# Altium footprint library THT_Matrix_5x6.PcbLib: 1 footprints
Each footprint in its own frame and in the unit in brackets; x right, y up, seen from the top. Pads: shape width x height; smd on the part's side, far side on the other; paste and mask are expansions set on the pad; w line width, h text height; cw(c..) or ccw(c..) is an arc to the next point about the centre after c.
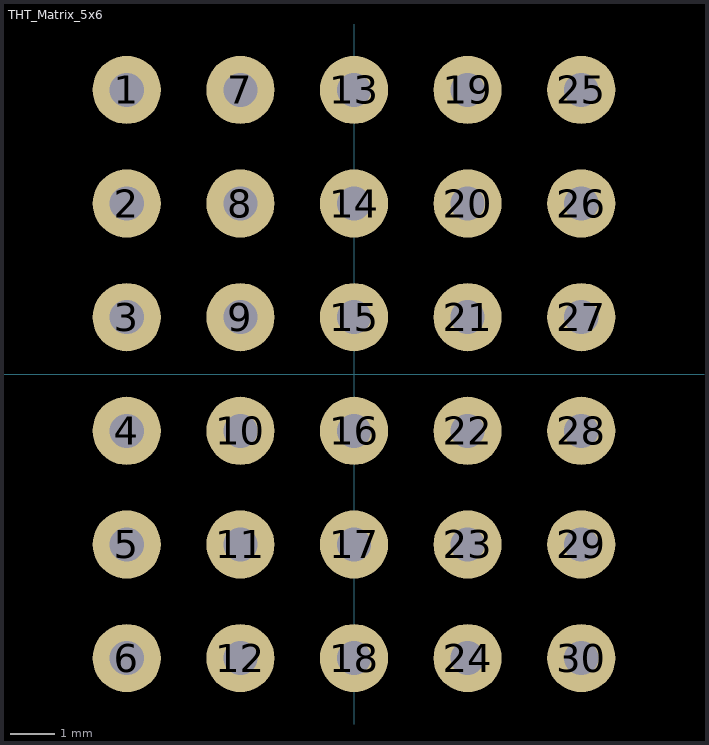
[diagram p0: the footprint, top view; thin cyan lines are the x and y axes]

## THT_Matrix_5x6 [mil]
pads (30):
  round 60 hole 30: 1(-200,250) 2(-200,150) 3(-200,50) 4(-200,-50) 5(-200,-150) 6(-200,-250) 7(-100,250) 8(-100,150) 9(-100,50) 10(-100,-50) 11(-100,-150) 12(-100,-250) 13(0,250) 14(0,150) 15(0,50) 16(0,-50) 17(0,-150) 18(0,-250) 19(100,250) 20(100,150) 21(100,50) 22(100,-50) 23(100,-150) 24(100,-250) 25(200,250) 26(200,150) 27(200,50) 28(200,-50) 29(200,-150) 30(200,-250)